# Altium footprint library PcbLib1.PcbLib: 42 footprints (part 2 of 3)
Each footprint in its own frame and in the unit in brackets; x right, y up, seen from the top. Pads: shape width x height; smd on the part's side, far side on the other; paste and mask are expansions set on the pad; w line width, h text height; cw(c..) or ccw(c..) is an arc to the next point about the centre after c.
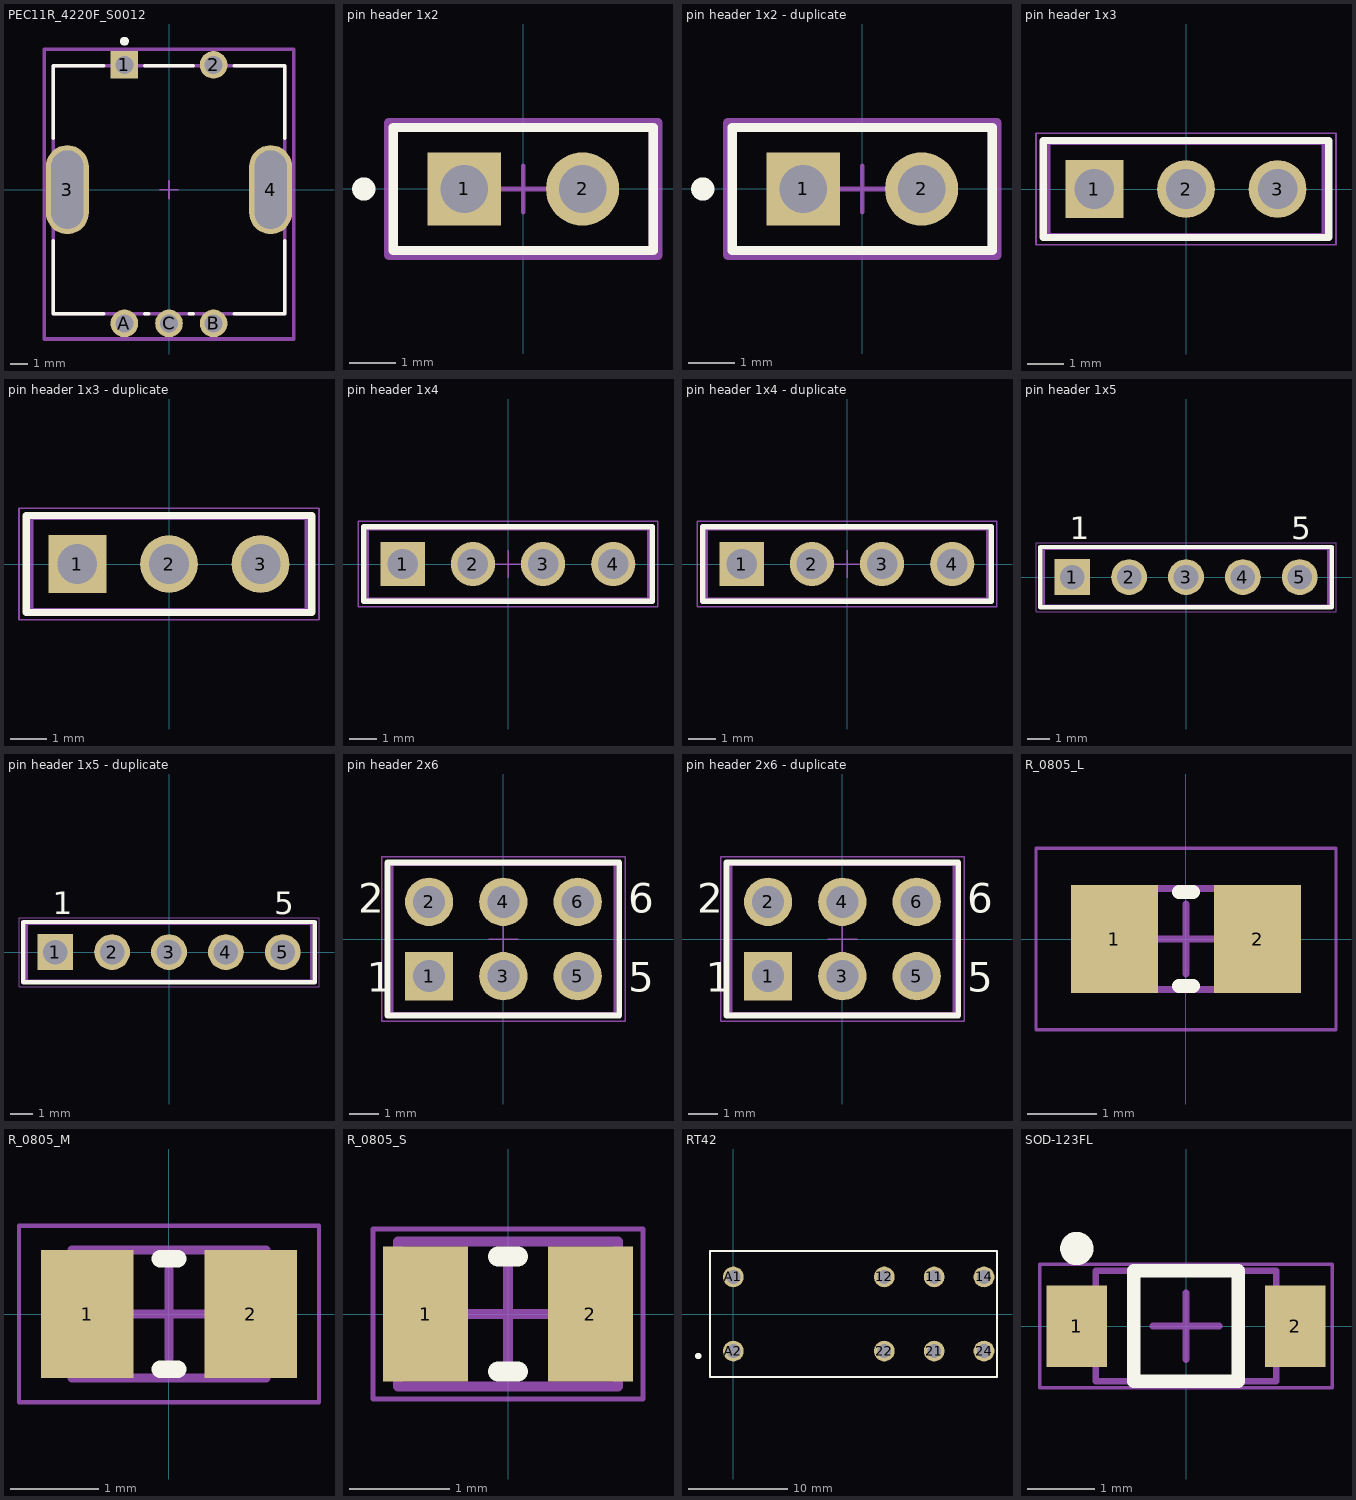
[diagram p1: the footprints below, top view; thin cyan lines are the x and y axes]

## PEC11R_4220F_S0012 [mm]
pads (7):
  rect 1.55x1.55 hole 1 paste-1000 mask+0: 1(-2.5,7)
  round 1.55 hole 1 paste-1000 mask+0: 2(2.5,7) A(-2.5,-7.5) B(2.5,-7.5) C(0,-7.5)
  rrect100% 2.4x5 hole 4.4 slot 1.8 at 0 deg paste-1000 mask+0: 3(-5.7,0) 4(5.7,0)
Top Overlay:
  circle w0.25: c-2.5,8.325 r0.125
  lines w0.2: -6.5,-2.875 -6.5,-6.95 -3.65,-6.95 ; -6.5,2.875 -6.5,6.95 -3.65,6.95 ; -1.35,-6.95 -1.15,-6.95 ; -1.35,6.95 1.35,6.95 ; 1.15,-6.95 1.35,-6.95 ; 3.65,-6.95 6.5,-6.95 6.5,-2.875 ; 3.65,6.95 6.5,6.95 6.5,2.875
Top 3D Body:
  lines w0.2: -6.5,-6.95 6.5,-6.95 6.5,6.95 -6.5,6.95 -6.5,-6.95
Top Courtyard:
  lines w0.2: -7,-8.375 7,-8.375 7,7.875 -7,7.875 -7,-8.375
Top Assembly:
  lines w0.2: -7,-8.375 7,-8.375 7,7.875 -7,7.875 -7,-8.375
  text ".Designator" at 0,-0.062 h1
Top Component Center:
  lines w0.1: -0.5,0 0.5,0 ; 0,-0.5 0,0.5
3D body "Switch_Bourns_PEC11R-4220F-S0012_eec.STEP": height 0.25, standoff 0, extent -7,-8.375 7,7.875

## pin header 1x2 [mm]
pads (2):
  rect 1.57x1.57 hole 1.02 paste-1000 mask+0: 1(-1.27,0)
  round 1.57 hole 1.02 paste-1000 mask+0: 2(1.27,0)
Top Overlay:
  circle w0.25: c-3.425,0 r0.125
  lines w0.2: -2.79,-1.32 2.79,-1.32 2.79,1.32 -2.79,1.32 -2.79,-1.32
Top 3D Body:
  lines w0.2: -2.79,-1.32 2.79,-1.32 2.79,1.32 -2.79,1.32 -2.79,-1.32
Top Courtyard:
  lines w0.2: -2.89,-1.42 2.89,-1.42 2.89,1.42 -2.89,1.42 -2.89,-1.42
Top Assembly:
  lines w0.2: -2.89,-1.42 2.89,-1.42 2.89,1.42 -2.89,1.42 -2.89,-1.42
  text ".Designator" at 0,0.188 h1
Top Component Center:
  lines w0.1: -0.5,0 0.5,0 ; 0,-0.5 0,0.5
3D body "Conn_Harwin_M20-9990246_eec.STEP": height 0.25, standoff 0, extent -2.89,-1.42 2.89,1.42

## pin header 1x2 - duplicate [mm]
pads (2):
  rect 1.57x1.57 hole 1.02 paste-1000 mask+0: 1(-1.27,0)
  round 1.57 hole 1.02 paste-1000 mask+0: 2(1.27,0)
Top Overlay:
  circle w0.25: c-3.425,0 r0.125
  lines w0.2: -2.79,-1.32 2.79,-1.32 2.79,1.32 -2.79,1.32 -2.79,-1.32
Top 3D Body:
  lines w0.2: -2.79,-1.32 2.79,-1.32 2.79,1.32 -2.79,1.32 -2.79,-1.32
Top Courtyard:
  lines w0.2: -2.89,-1.42 2.89,-1.42 2.89,1.42 -2.89,1.42 -2.89,-1.42
Top Assembly:
  lines w0.2: -2.89,-1.42 2.89,-1.42 2.89,1.42 -2.89,1.42 -2.89,-1.42
  text ".Designator" at 0,0.188 h1
Top Component Center:
  lines w0.1: -0.5,0 0.5,0 ; 0,-0.5 0,0.5
3D body "Conn_Harwin_M20-9990246_eec.STEP": height 0.25, standoff 0, extent -2.89,-1.42 2.89,1.42

## pin header 1x3 [mm] "Pin Header, pitch 2.54 mm, THT, Vertical, single row, 3p"
height 8.54
pads (3):
  rect 1.6x1.6 hole 1.1: 1(-2.54,0)
  round 1.6 hole 1.1: 2(0,0) 3(2.54,0)
Top Overlay:
  lines w0.2: -3.96,-1.345 3.96,-1.345 3.96,1.345 -3.96,1.345 -3.96,-1.345
Mechanical 13:
  lines w0.1: -3.81,-1.27 -3.81,1.27 3.81,1.27 3.81,-1.27 -3.81,-1.27
Mechanical 15:
  lines w0.05: -0.5,0 0.5,0 ; 0,-0.5 0,0.5 ; -4.16,-1.545 -4.16,1.545 4.16,1.545 4.16,-1.545 -4.16,-1.545
3D body "61300311121.stp": height 8.57, standoff -2.97, extent -3.81,-1.27 3.81,1.27

## pin header 1x3 - duplicate [mm] "Pin Header, pitch 2.54 mm, THT, Vertical, single row, 3p"
height 8.54
pads (3):
  rect 1.6x1.6 hole 1.1: 1(-2.54,0)
  round 1.6 hole 1.1: 2(0,0) 3(2.54,0)
Top Overlay:
  lines w0.2: -3.96,-1.345 -3.96,1.345 3.96,1.345 3.96,-1.345 -3.96,-1.345
Mechanical 13:
  lines w0.1: -3.81,-1.27 3.81,-1.27 3.81,1.27 -3.81,1.27 -3.81,-1.27
Mechanical 15:
  lines w0.05: -0.5,0 0.5,0 ; 0,-0.5 0,0.5 ; -4.16,-1.545 4.16,-1.545 4.16,1.545 -4.16,1.545 -4.16,-1.545
3D body "61300311121.stp": height 8.57, standoff -2.97, extent -3.81,-1.27 3.81,1.27

## pin header 1x4 [mm] "Pin Header, pitch 2.54 mm, THT, Vertical, single row, 4p"
height 8.54
pads (4):
  rect 1.6x1.6 hole 1.1: 1(-3.81,0)
  round 1.6 hole 1.1: 2(-1.27,0) 3(1.27,0) 4(3.81,0)
Top Overlay:
  lines w0.2: -5.23,-1.345 -5.23,1.345 5.23,1.345 5.23,-1.345 -5.23,-1.345
Mechanical 13:
  lines w0.1: -5.08,-1.27 5.08,-1.27 5.08,1.27 -5.08,1.27 -5.08,-1.27
Mechanical 15:
  lines w0.05: -0.5,0 0.5,0 ; 0,-0.5 0,0.5 ; -5.43,-1.545 5.43,-1.545 5.43,1.545 -5.43,1.545 -5.43,-1.545
3D body "61300411121.stp": height 8.57, standoff -2.97, extent -5.08,-1.27 5.08,1.27

## pin header 1x4 - duplicate [mm] "Pin Header, pitch 2.54 mm, THT, Vertical, single row, 4p"
height 8.54
pads (4):
  rect 1.6x1.6 hole 1.1: 1(-3.81,0)
  round 1.6 hole 1.1: 2(-1.27,0) 3(1.27,0) 4(3.81,0)
Top Overlay:
  lines w0.2: -5.23,-1.345 5.23,-1.345 5.23,1.345 -5.23,1.345 -5.23,-1.345
Mechanical 13:
  lines w0.1: -5.08,-1.27 -5.08,1.27 5.08,1.27 5.08,-1.27 -5.08,-1.27
Mechanical 15:
  lines w0.05: -0.5,0 0.5,0 ; 0,-0.5 0,0.5 ; -5.43,-1.545 -5.43,1.545 5.43,1.545 5.43,-1.545 -5.43,-1.545
3D body "61300411121.stp": height 8.57, standoff -2.97, extent -5.08,-1.27 5.08,1.27

## pin header 1x5 [mm] "Pin Header, pitch 2.54 mm, THT, Vertical, single row, 5p"
height 8.54
pads (5):
  rect 1.6x1.6 hole 1.1: 1(-5.08,0)
  round 1.6 hole 1.1: 2(-2.54,0) 3(0,0) 4(2.54,0) 5(5.08,0)
Top Overlay:
  lines w0.2: -6.5,-1.345 6.5,-1.345 6.5,1.345 -6.5,1.345 -6.5,-1.345
  text "1" at -5.2,1.7 h1.02
  text "5" at 4.7,1.7 h1.02
Mechanical 13:
  lines w0.1: -6.35,-1.27 -6.35,1.27 6.35,1.27 6.35,-1.27 -6.35,-1.27
Mechanical 15:
  lines w0.05: -0.5,0 0.5,0 ; 0,-0.5 0,0.5 ; -6.7,-1.545 -6.7,1.545 6.7,1.545 6.7,-1.545 -6.7,-1.545
3D body "61300511121.stp": height 8.57, standoff -2.97, extent -6.35,-1.27 6.35,1.27

## pin header 1x5 - duplicate [mm] "Pin Header, pitch 2.54 mm, THT, Vertical, single row, 5p"
height 8.54
pads (5):
  rect 1.6x1.6 hole 1.1: 1(-5.08,0)
  round 1.6 hole 1.1: 2(-2.54,0) 3(0,0) 4(2.54,0) 5(5.08,0)
Top Overlay:
  lines w0.2: -6.5,-1.345 6.5,-1.345 6.5,1.345 -6.5,1.345 -6.5,-1.345
  text "1" at -5.2,1.7 h1.02
  text "5" at 4.7,1.7 h1.02
Mechanical 13:
  lines w0.1: -6.35,-1.27 -6.35,1.27 6.35,1.27 6.35,-1.27 -6.35,-1.27
Mechanical 15:
  lines w0.05: -0.5,0 0.5,0 ; 0,-0.5 0,0.5 ; -6.7,-1.545 -6.7,1.545 6.7,1.545 6.7,-1.545 -6.7,-1.545
3D body "61300511121.stp": height 8.57, standoff -2.97, extent -6.35,-1.27 6.35,1.27

## pin header 2x6 [mm] "Pin Header, pitch 2.54 mm, THT, Vertical, dual row, 6p"
height 8.54
pads (6):
  rect 1.65x1.65 hole 1.1: 1(-2.54,-1.27)
  round 1.65 hole 1.1: 2(-2.54,1.27) 3(0,-1.27) 4(0,1.27) 5(2.54,-1.27) 6(2.54,1.27)
Top Overlay:
  lines w0.2: -3.96,-2.615 -3.96,2.615 3.96,2.615 3.96,-2.615 -3.96,-2.615
  text "1" at -4.67,-1.8 h1.02
  text "2" at -4.97,0.9 h1.02
  text "5" at 4.27,-1.8 h1.02
  text "6" at 4.27,0.9 h1.02
Mechanical 13:
  lines w0.1: -3.81,-2.54 -3.81,2.54 3.81,2.54 3.81,-2.54 -3.81,-2.54
Mechanical 15:
  lines w0.05: -0.5,0 0.5,0 ; 0,-0.5 0,0.5 ; -4.16,-2.815 4.16,-2.815 4.16,2.815 -4.16,2.815 -4.16,-2.815
3D body "61300621121.stp": height 8.59, standoff -2.95, extent -3.81,-2.54 3.81,2.54

## pin header 2x6 - duplicate [mm] "Pin Header, pitch 2.54 mm, THT, Vertical, dual row, 6p"
height 8.54
pads (6):
  rect 1.65x1.65 hole 1.1: 1(-2.54,-1.27)
  round 1.65 hole 1.1: 2(-2.54,1.27) 3(0,-1.27) 4(0,1.27) 5(2.54,-1.27) 6(2.54,1.27)
Top Overlay:
  lines w0.2: -3.96,-2.615 -3.96,2.615 3.96,2.615 3.96,-2.615 -3.96,-2.615
  text "1" at -4.67,-1.8 h1.02
  text "2" at -4.97,0.9 h1.02
  text "5" at 4.27,-1.8 h1.02
  text "6" at 4.27,0.9 h1.02
Mechanical 13:
  lines w0.1: -3.81,-2.54 -3.81,2.54 3.81,2.54 3.81,-2.54 -3.81,-2.54
Mechanical 15:
  lines w0.05: -0.5,0 0.5,0 ; 0,-0.5 0,0.5 ; -4.16,-2.815 4.16,-2.815 4.16,2.815 -4.16,2.815 -4.16,-2.815
3D body "61300621121.stp": height 8.59, standoff -2.95, extent -3.81,-2.54 3.81,2.54

## R_0805_L [mm] "Chip Resistor, 2-Leads, Body 2.00x1.25mm, IPC Low Density"
height 0.5
pads (2):
  rect 1.25x1.55 smd: 1(-1.025,0) 2(1.025,0)
Top Overlay:
  lines w0.2: -0.1,-0.675 0.1,-0.675 ; -0.1,0.675 0.1,0.675
Mechanical 13:
  lines w0.1: -1.1,-0.725 -1.1,0.725 1.1,0.725 1.1,-0.725 -1.1,-0.725
Mechanical 15:
  lines w0.05: -2.15,-1.3 -2.15,1.3 2.15,1.3 2.15,-1.3 -2.15,-1.3
  lines w0.1: -0.5,0 0.5,0 ; 0,-0.5 0,0.5
3D body: height 0.5, standoff 0, extent -0.8,-0.725 0.8,0.725
3D body: height 0.5, standoff 0, extent -1.1,-0.725 -0.8,0.725
3D body: height 0.5, standoff 0, extent 0.8,-0.725 1.1,0.725

## R_0805_M [mm] "Chip Resistor, 2-Leads, Body 2.00x1.25mm, IPC Medium Density"
height 0.5
pads (2):
  rect 1.05x1.45 smd: 1(-0.925,0) 2(0.925,0)
Top Overlay:
  lines w0.2: -0.1,-0.625 0.1,-0.625 ; -0.1,0.625 0.1,0.625
Mechanical 13:
  lines w0.1: -1.1,-0.725 -1.1,0.725 1.1,0.725 1.1,-0.725 -1.1,-0.725
Mechanical 15:
  lines w0.05: -1.7,-1 -1.7,1 1.7,1 1.7,-1 -1.7,-1
  lines w0.1: -0.5,0 0.5,0 ; 0,-0.5 0,0.5
3D body: height 0.5, standoff 0, extent -0.8,-0.725 0.8,0.725
3D body: height 0.5, standoff 0, extent -1.1,-0.725 -0.8,0.725
3D body: height 0.5, standoff 0, extent 0.8,-0.725 1.1,0.725

## R_0805_S [mm] "Chip Resistor, 2-Leads, Body 2.00x1.25mm, IPC High Density"
height 0.5
pads (2):
  rect 0.85x1.35 smd: 1(-0.825,0) 2(0.825,0)
Top Overlay:
  lines w0.2: -0.1,-0.575 0.1,-0.575 ; -0.1,0.575 0.1,0.575
Mechanical 13:
  lines w0.1: -1.1,-0.725 1.1,-0.725 1.1,0.725 -1.1,0.725 -1.1,-0.725
Mechanical 15:
  lines w0.05: -1.35,-0.85 1.35,-0.85 1.35,0.85 -1.35,0.85 -1.35,-0.85
  lines w0.1: -0.5,0 0.5,0 ; 0,-0.5 0,0.5
3D body: height 0.5, standoff 0, extent 0.8,-0.725 1.1,0.725
3D body: height 0.5, standoff 0, extent -1.1,-0.725 -0.8,0.725
3D body: height 0.5, standoff 0, extent -0.8,-0.725 0.8,0.725

## RT42 [mm]
pads (8):
  round 2.1 hole 1.4: 11(20.3,3.75) 12(15.26,3.75) 14(25.34,3.75) 21(20.3,-3.75) 22(15.26,-3.75) 24(25.34,-3.75) A1(0,3.75) A2(0,-3.75)
Top Overlay:
  circle w0.4: c-3.547,-4.246 r0.126
  lines w0.2: -2.35,-6.35 -2.35,6.35 26.65,6.35 26.65,-6.35 -2.35,-6.35
Mechanical 13:
  lines w0.2: -2.35,-6.35 -2.35,6.35 26.65,6.35 26.65,-6.35 -2.35,-6.35
3D body "RT424005.stp": height 15.86, standoff -2.94, extent -2.21,-6.35 26.79,6.35

## SOD-123FL [mm] "SOD, 2-Leads, Body 2.7x1.65mm"
height 1
pads (2):
  rect 0.91x1.22 smd: 1(-1.635,0) 2(1.635,0)
Top Overlay:
  circle w0.25: c-1.635,1.16 r0.125
  lines w0.2: -0.78,-0.825 0.78,-0.825 0.78,0.825 -0.78,0.825 -0.78,-0.825
Mechanical 13:
  lines w0.1: -1.35,-0.825 1.35,-0.825 1.35,0.825 -1.35,0.825 -1.35,-0.825
Mechanical 15:
  lines w0.05: -2.19,-0.925 2.19,-0.925 2.19,0.925 -2.19,0.925 -2.19,-0.925
  lines w0.1: -0.5,0 0.5,0 ; 0,-0.5 0,0.5
3D body: height 1, standoff 0, extent -1.35,-0.825 1.35,0.825